# Altium schematic symbol library XC6SLX45_xFGG484I-FGG484.schlib: 1 symbol
Pins are listed as number, name and electrical type; pins without a type are passive.

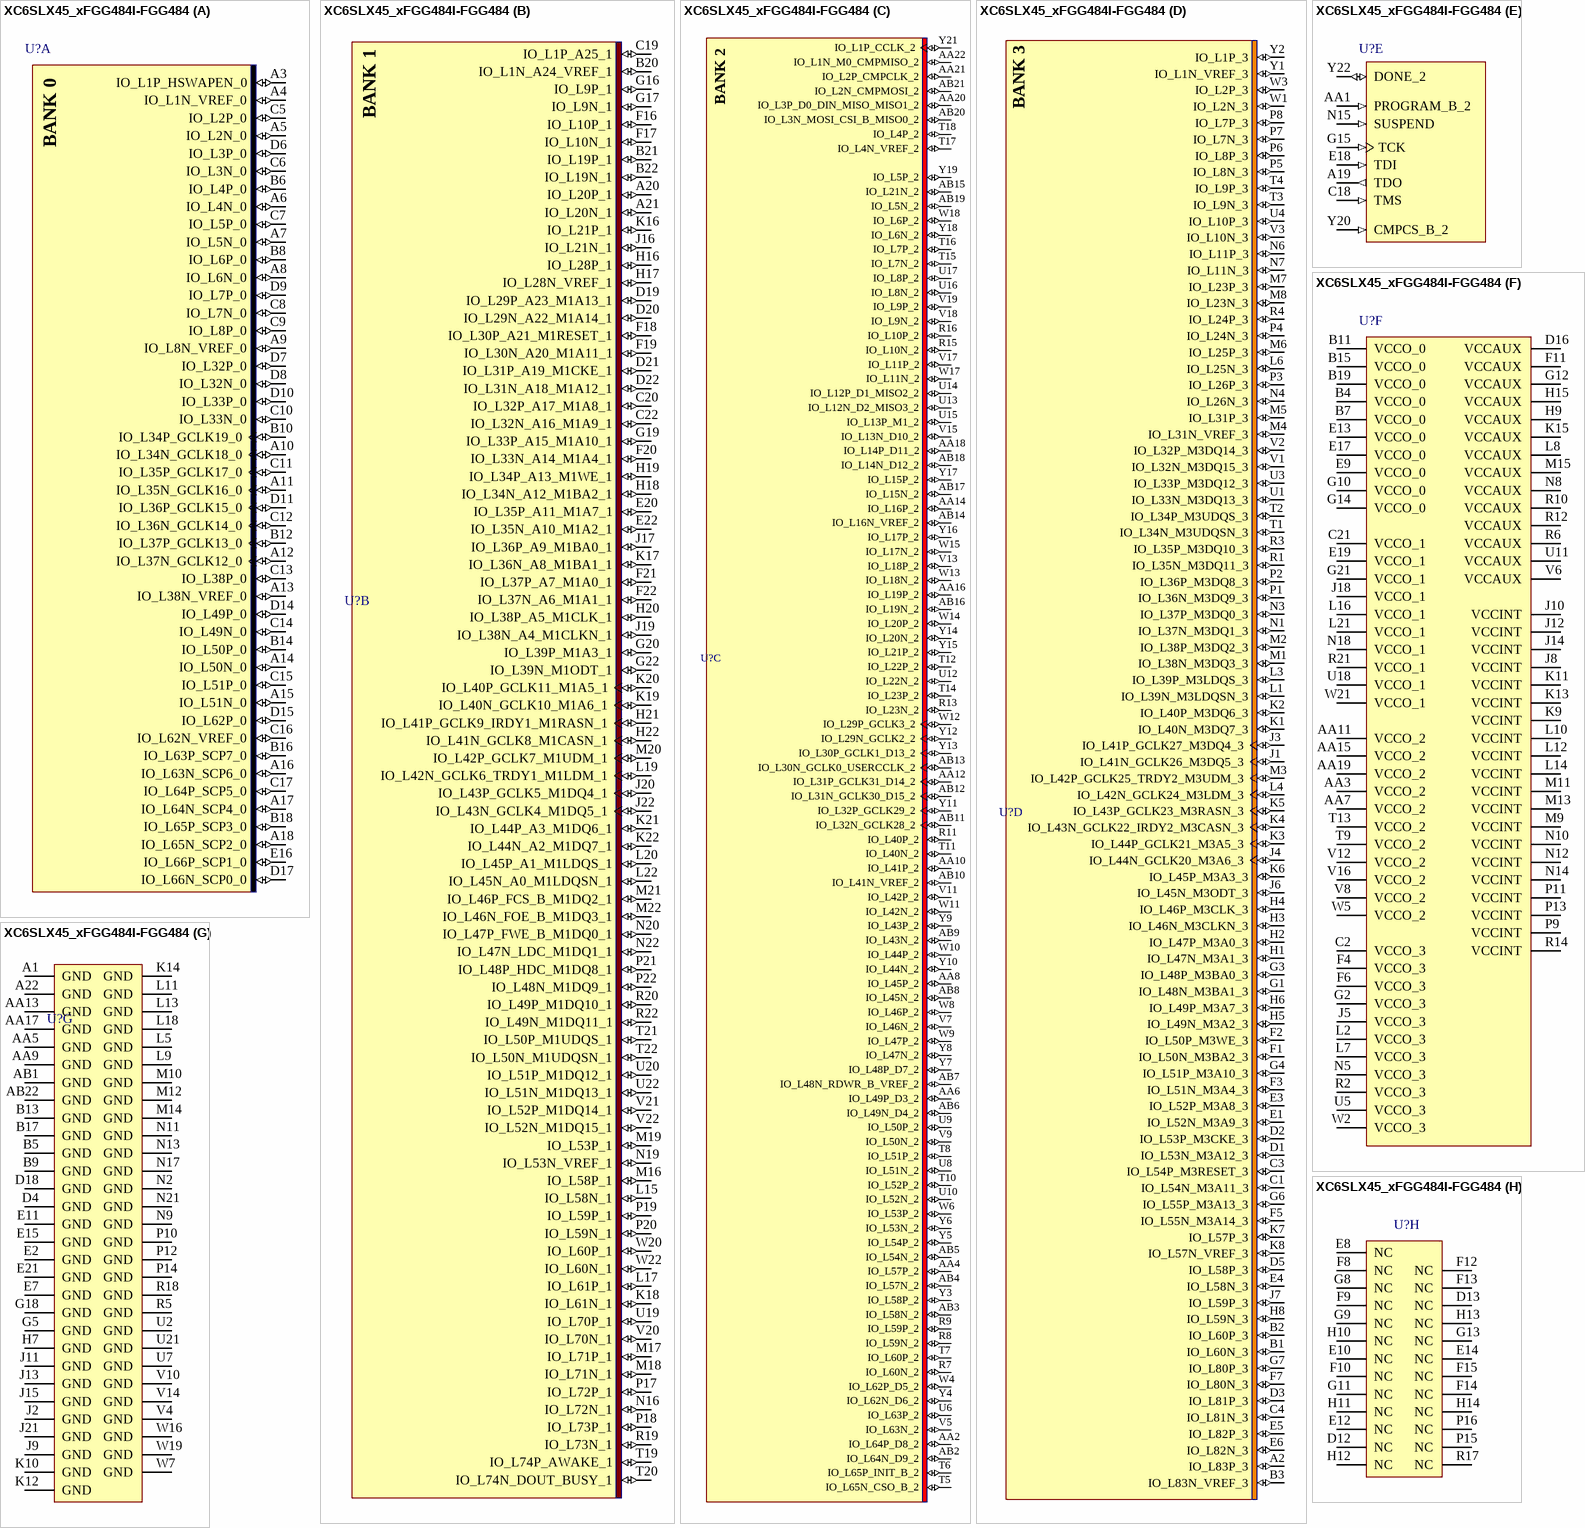
[diagram p0: symbol XC6SLX45_xFGG484I-FGG484]

## XC6SLX45_xFGG484I-FGG484
designator U?  (value not drawn)
part A pins: A3 IO_L1P_HSWAPEN_0 (io), A4 IO_L1N_VREF_0 (io), A5 IO_L2N_0 (io), A6 IO_L4N_0 (io), A7 IO_L5N_0 (io), A8 IO_L6N_0 (io), A9 IO_L8N_VREF_0 (io), A10 IO_L34N_GCLK18_0 (io), A11 IO_L35N_GCLK16_0 (io), A12 IO_L37N_GCLK12_0 (io), A13 IO_L38N_VREF_0 (io), A14 IO_L50N_0 (io), A15 IO_L51N_0 (io), A16 IO_L63N_SCP6_0 (io), A17 IO_L64N_SCP4_0 (io), A18 IO_L65N_SCP2_0 (io), B6 IO_L4P_0 (io), B8 IO_L6P_0 (io), B10 IO_L34P_GCLK19_0 (io), B12 IO_L37P_GCLK13_0 (io), B14 IO_L50P_0 (io), B16 IO_L63P_SCP7_0 (io), B18 IO_L65P_SCP3_0 (io), C5 IO_L2P_0 (io), C6 IO_L3N_0 (io), C7 IO_L5P_0 (io), C8 IO_L7N_0 (io), C9 IO_L8P_0 (io), C10 IO_L33N_0 (io), C11 IO_L35P_GCLK17_0 (io), C12 IO_L36N_GCLK14_0 (io), C13 IO_L38P_0 (io), C14 IO_L49N_0 (io), C15 IO_L51P_0 (io), C16 IO_L62N_VREF_0 (io), C17 IO_L64P_SCP5_0 (io), D6 IO_L3P_0 (io), D7 IO_L32P_0 (io), D8 IO_L32N_0 (io), D9 IO_L7P_0 (io), D10 IO_L33P_0 (io), D11 IO_L36P_GCLK15_0 (io), D14 IO_L49P_0 (io), D15 IO_L62P_0 (io), D17 IO_L66N_SCP0_0 (io), E16 IO_L66P_SCP1_0 (io)
part B pins: A20 IO_L20P_1 (io), A21 IO_L20N_1 (io), B20 IO_L1N_A24_VREF_1 (io), B21 IO_L19P_1 (io), B22 IO_L19N_1 (io), C19 IO_L1P_A25_1 (io), C20 IO_L32P_A17_M1A8_1 (io), C22 IO_L32N_A16_M1A9_1 (io), D19 IO_L29P_A23_M1A13_1 (io), D20 IO_L29N_A22_M1A14_1 (io), D21 IO_L31P_A19_M1CKE_1 (io), D22 IO_L31N_A18_M1A12_1 (io), E20 IO_L35P_A11_M1A7_1 (io), E22 IO_L35N_A10_M1A2_1 (io), F16 IO_L10P_1 (io), F17 IO_L10N_1 (io), F18 IO_L30P_A21_M1RESET_1 (io), F19 IO_L30N_A20_M1A11_1 (io), F20 IO_L33N_A14_M1A4_1 (io), F21 IO_L37P_A7_M1A0_1 (io), F22 IO_L37N_A6_M1A1_1 (io), G16 IO_L9P_1 (io), G17 IO_L9N_1 (io), G19 IO_L33P_A15_M1A10_1 (io), G20 IO_L39P_M1A3_1 (io), G22 IO_L39N_M1ODT_1 (io), H16 IO_L28P_1 (io), H17 IO_L28N_VREF_1 (io), H18 IO_L34N_A12_M1BA2_1 (io), H19 IO_L34P_A13_M1WE_1 (io), H20 IO_L38P_A5_M1CLK_1 (io), H21 IO_L41P_GCLK9_IRDY1_M1RASN_1 (io), H22 IO_L41N_GCLK8_M1CASN_1 (io), J16 IO_L21N_1 (io), J17 IO_L36P_A9_M1BA0_1 (io), J19 IO_L38N_A4_M1CLKN_1 (io), J20 IO_L43P_GCLK5_M1DQ4_1 (io), J22 IO_L43N_GCLK4_M1DQ5_1 (io), K16 IO_L21P_1 (io), K17 IO_L36N_A8_M1BA1_1 (io), K18 IO_L61N_1 (io), K19 IO_L40N_GCLK10_M1A6_1 (io), K20 IO_L40P_GCLK11_M1A5_1 (io), K21 IO_L44P_A3_M1DQ6_1 (io), K22 IO_L44N_A2_M1DQ7_1 (io), L15 IO_L58N_1 (io), L17 IO_L61P_1 (io), L19 IO_L42N_GCLK6_TRDY1_M1LDM_1 (io), L20 IO_L45P_A1_M1LDQS_1 (io), L22 IO_L45N_A0_M1LDQSN_1 (io), M16 IO_L58P_1 (io), M17 IO_L71P_1 (io), M18 IO_L71N_1 (io), M19 IO_L53P_1 (io), M20 IO_L42P_GCLK7_M1UDM_1 (io), M21 IO_L46P_FCS_B_M1DQ2_1 (io), M22 IO_L46N_FOE_B_M1DQ3_1 (io), N16 IO_L72N_1 (io), N19 IO_L53N_VREF_1 (io), N20 IO_L47P_FWE_B_M1DQ0_1 (io), N22 IO_L47N_LDC_M1DQ1_1 (io), P17 IO_L72P_1 (io), P18 IO_L73P_1 (io), P19 IO_L59P_1 (io), P20 IO_L59N_1 (io), P21 IO_L48P_HDC_M1DQ8_1 (io), P22 IO_L48N_M1DQ9_1 (io), R19 IO_L73N_1 (io), R20 IO_L49P_M1DQ10_1 (io), R22 IO_L49N_M1DQ11_1 (io), T19 IO_L74P_AWAKE_1 (io), T20 IO_L74N_DOUT_BUSY_1 (io), T21 IO_L50P_M1UDQS_1 (io), T22 IO_L50N_M1UDQSN_1 (io), U19 IO_L70P_1 (io), U20 IO_L51P_M1DQ12_1 (io), U22 IO_L51N_M1DQ13_1 (io), V20 IO_L70N_1 (io), V21 IO_L52P_M1DQ14_1 (io), V22 IO_L52N_M1DQ15_1 (io), W20 IO_L60P_1 (io), W22 IO_L60N_1 (io)
part C pins: AA2 IO_L64P_D8_2 (io), AA4 IO_L57P_2 (io), AA6 IO_L49P_D3_2 (io), AA8 IO_L45P_2 (io), AA10 IO_L41P_2 (io), AA12 IO_L31P_GCLK31_D14_2 (io), AA14 IO_L16P_2 (io), AA16 IO_L19P_2 (io), AA18 IO_L14P_D11_2 (io), AA20 IO_L3P_D0_DIN_MISO_MISO1_2 (io), AA21 IO_L2P_CMPCLK_2 (io), AA22 IO_L1N_M0_CMPMISO_2 (io), AB2 IO_L64N_D9_2 (io), AB3 IO_L58N_2 (io), AB4 IO_L57N_2 (io), AB5 IO_L54N_2 (io), AB6 IO_L49N_D4_2 (io), AB7 IO_L48N_RDWR_B_VREF_2 (io), AB8 IO_L45N_2 (io), AB9 IO_L43N_2 (io), AB10 IO_L41N_VREF_2 (io), AB11 IO_L32N_GCLK28_2 (io), AB12 IO_L31N_GCLK30_D15_2 (io), AB13 IO_L30N_GCLK0_USERCCLK_2 (io), AB14 IO_L16N_VREF_2 (io), AB15 IO_L21N_2 (io), AB16 IO_L19N_2 (io), AB17 IO_L15N_2 (io), AB18 IO_L14N_D12_2 (io), AB19 IO_L5N_2 (io), AB20 IO_L3N_MOSI_CSI_B_MISO0_2 (io), AB21 IO_L2N_CMPMOSI_2 (io), R7 IO_L60N_2 (io), R8 IO_L59N_2 (io), R9 IO_L59P_2 (io), R11 IO_L40P_2 (io), R13 IO_L23N_2 (io), R15 IO_L10N_2 (io), R16 IO_L10P_2 (io), T5 IO_L65N_CSO_B_2 (io), T6 IO_L65P_INIT_B_2 (io), T7 IO_L60P_2 (io), T8 IO_L51P_2 (io), T10 IO_L52P_2 (io), T11 IO_L40N_2 (io), T12 IO_L22P_2 (io), T14 IO_L23P_2 (io), T15 IO_L7N_2 (io), T16 IO_L7P_2 (io), T17 IO_L4N_VREF_2 (io), T18 IO_L4P_2 (io), U6 IO_L63P_2 (io), U8 IO_L51N_2 (io), U9 IO_L50P_2 (io), U10 IO_L52N_2 (io), U12 IO_L22N_2 (io), U13 IO_L12N_D2_MISO3_2 (io), U14 IO_L12P_D1_MISO2_2 (io), U15 IO_L13P_M1_2 (io), U16 IO_L8N_2 (io), U17 IO_L8P_2 (io), V5 IO_L63N_2 (io), V7 IO_L46N_2 (io), V9 IO_L50N_2 (io), V11 IO_L42P_2 (io), V13 IO_L18P_2 (io), V15 IO_L13N_D10_2 (io), V17 IO_L11P_2 (io), V18 IO_L9N_2 (io), V19 IO_L9P_2 (io), W4 IO_L62P_D5_2 (io), W6 IO_L53P_2 (io), W8 IO_L46P_2 (io), W9 IO_L47P_2 (io), W10 IO_L44P_2 (io), W11 IO_L42N_2 (io), W12 IO_L29P_GCLK3_2 (io), W13 IO_L18N_2 (io), W14 IO_L20P_2 (io), W15 IO_L17N_2 (io), W17 IO_L11N_2 (io), W18 IO_L6P_2 (io), Y3 IO_L58P_2 (io), Y4 IO_L62N_D6_2 (io), Y5 IO_L54P_2 (io), Y6 IO_L53N_2 (io), Y7 IO_L48P_D7_2 (io), Y8 IO_L47N_2 (io), Y9 IO_L43P_2 (io), Y10 IO_L44N_2 (io), Y11 IO_L32P_GCLK29_2 (io), Y12 IO_L29N_GCLK2_2 (io), Y13 IO_L30P_GCLK1_D13_2 (io), Y14 IO_L20N_2 (io), Y15 IO_L21P_2 (io), Y16 IO_L17P_2 (io), Y17 IO_L15P_2 (io), Y18 IO_L6N_2 (io), Y19 IO_L5P_2 (io), Y21 IO_L1P_CCLK_2 (io)
part D pins: A2 IO_L83P_3 (io), B1 IO_L60N_3 (io), B2 IO_L60P_3 (io), B3 IO_L83N_VREF_3 (io), C1 IO_L54N_M3A11_3 (io), C3 IO_L54P_M3RESET_3 (io), C4 IO_L81N_3 (io), D1 IO_L53N_M3A12_3 (io), D2 IO_L53P_M3CKE_3 (io), D3 IO_L81P_3 (io), D5 IO_L58P_3 (io), E1 IO_L52N_M3A9_3 (io), E3 IO_L52P_M3A8_3 (io), E4 IO_L58N_3 (io), E5 IO_L82P_3 (io), E6 IO_L82N_3 (io), F1 IO_L50N_M3BA2_3 (io), F2 IO_L50P_M3WE_3 (io), F3 IO_L51N_M3A4_3 (io), F5 IO_L55N_M3A14_3 (io), F7 IO_L80N_3 (io), G1 IO_L48N_M3BA1_3 (io), G3 IO_L48P_M3BA0_3 (io), G4 IO_L51P_M3A10_3 (io), G6 IO_L55P_M3A13_3 (io), G7 IO_L80P_3 (io), H1 IO_L47N_M3A1_3 (io), H2 IO_L47P_M3A0_3 (io), H3 IO_L46N_M3CLKN_3 (io), H4 IO_L46P_M3CLK_3 (io), H5 IO_L49N_M3A2_3 (io), H6 IO_L49P_M3A7_3 (io), H8 IO_L59N_3 (io), J1 IO_L41N_GCLK26_M3DQ5_3 (io), J3 IO_L41P_GCLK27_M3DQ4_3 (io), J4 IO_L44N_GCLK20_M3A6_3 (io), J6 IO_L45N_M3ODT_3 (io), J7 IO_L59P_3 (io), K1 IO_L40N_M3DQ7_3 (io), K2 IO_L40P_M3DQ6_3 (io), K3 IO_L44P_GCLK21_M3A5_3 (io), K4 IO_L43N_GCLK22_IRDY2_M3CASN_3 (io), K5 IO_L43P_GCLK23_M3RASN_3 (io), K6 IO_L45P_M3A3_3 (io), K7 IO_L57P_3 (io), K8 IO_L57N_VREF_3 (io), L1 IO_L39N_M3LDQSN_3 (io), L3 IO_L39P_M3LDQS_3 (io), L4 IO_L42N_GCLK24_M3LDM_3 (io), L6 IO_L25N_3 (io), M1 IO_L38N_M3DQ3_3 (io), M2 IO_L38P_M3DQ2_3 (io), M3 IO_L42P_GCLK25_TRDY2_M3UDM_3 (io), M4 IO_L31N_VREF_3 (io), M5 IO_L31P_3 (io), M6 IO_L25P_3 (io), M7 IO_L23P_3 (io), M8 IO_L23N_3 (io), N1 IO_L37N_M3DQ1_3 (io), N3 IO_L37P_M3DQ0_3 (io), N4 IO_L26N_3 (io), N6 IO_L11P_3 (io), N7 IO_L11N_3 (io), P1 IO_L36N_M3DQ9_3 (io), P2 IO_L36P_M3DQ8_3 (io), P3 IO_L26P_3 (io), P4 IO_L24N_3 (io), P5 IO_L8N_3 (io), P6 IO_L8P_3 (io), P7 IO_L7N_3 (io), P8 IO_L7P_3 (io), R1 IO_L35N_M3DQ11_3 (io), R3 IO_L35P_M3DQ10_3 (io), R4 IO_L24P_3 (io), T1 IO_L34N_M3UDQSN_3 (io), T2 IO_L34P_M3UDQS_3 (io), T3 IO_L9N_3 (io), T4 IO_L9P_3 (io), U1 IO_L33N_M3DQ13_3 (io), U3 IO_L33P_M3DQ12_3 (io), U4 IO_L10P_3 (io), V1 IO_L32N_M3DQ15_3 (io), V2 IO_L32P_M3DQ14_3 (io), V3 IO_L10N_3 (io), W1 IO_L2N_3 (io), W3 IO_L2P_3 (io), Y1 IO_L1N_VREF_3 (io), Y2 IO_L1P_3 (io)
part E pins: A19 TDO (out), AA1 PROGRAM_B_2 (in), C18 TMS (in), E18 TDI (in), G15 TCK (in), N15 SUSPEND (in), Y20 CMPCS_B_2 (in), Y22 DONE_2 (io)
part F pins: AA3 VCCO_2 (power), AA7 VCCO_2 (power), AA11 VCCO_2 (power), AA15 VCCO_2 (power), AA19 VCCO_2 (power), B4 VCCO_0 (power), B7 VCCO_0 (power), B11 VCCO_0 (power), B15 VCCO_0 (power), B19 VCCO_0 (power), C2 VCCO_3 (power), C21 VCCO_1 (power), D16 VCCAUX (power), E9 VCCO_0 (power), E13 VCCO_0 (power), E17 VCCO_0 (power), E19 VCCO_1 (power), F4 VCCO_3 (power), F6 VCCO_3 (power), F11 VCCAUX (power), G2 VCCO_3 (power), G10 VCCO_0 (power), G12 VCCAUX (power), G14 VCCO_0 (power), G21 VCCO_1 (power), H9 VCCAUX (power), H15 VCCAUX (power), J5 VCCO_3 (power), J8 VCCINT (power), J10 VCCINT (power), J12 VCCINT (power), J14 VCCINT (power), J18 VCCO_1 (power), K9 VCCINT (power), K11 VCCINT (power), K13 VCCINT (power), K15 VCCAUX (power), L2 VCCO_3 (power), L7 VCCO_3 (power), L8 VCCAUX (power), L10 VCCINT (power), L12 VCCINT (power), L14 VCCINT (power), L16 VCCO_1 (power), L21 VCCO_1 (power), M9 VCCINT (power), M11 VCCINT (power), M13 VCCINT (power), M15 VCCAUX (power), N5 VCCO_3 (power), N8 VCCAUX (power), N10 VCCINT (power), N12 VCCINT (power), N14 VCCINT (power), N18 VCCO_1 (power), P9 VCCINT (power), P11 VCCINT (power), P13 VCCINT (power), R2 VCCO_3 (power), R6 VCCAUX (power), R10 VCCAUX (power), R12 VCCAUX (power), R14 VCCINT (power), R21 VCCO_1 (power), T9 VCCO_2 (power), T13 VCCO_2 (power), U5 VCCO_3 (power), U11 VCCAUX (power), U18 VCCO_1 (power), V6 VCCAUX (power), V8 VCCO_2 (power), V12 VCCO_2 (power), V16 VCCO_2 (power), W2 VCCO_3 (power), W5 VCCO_2 (power), W21 VCCO_1 (power)
part G pins: A1 GND (power), A22 GND (power), AA5 GND (power), AA9 GND (power), AA13 GND (power), AA17 GND (power), AB1 GND (power), AB22 GND (power), B5 GND (power), B9 GND (power), B13 GND (power), B17 GND (power), D4 GND (power), D18 GND (power), E2 GND (power), E7 GND (power), E11 GND (power), E15 GND (power), E21 GND (power), G5 GND (power), G18 GND (power), H7 GND (power), J2 GND (power), J9 GND (power), J11 GND (power), J13 GND (power), J15 GND (power), J21 GND (power), K10 GND (power), K12 GND (power), K14 GND (power), L5 GND (power), L9 GND (power), L11 GND (power), L13 GND (power), L18 GND (power), M10 GND (power), M12 GND (power), M14 GND (power), N2 GND (power), N9 GND (power), N11 GND (power), N13 GND (power), N17 GND (power), N21 GND (power), P10 GND (power), P12 GND (power), P14 GND (power), R5 GND (power), R18 GND (power), U2 GND (power), U7 GND (power), U21 GND (power), V4 GND (power), V10 GND (power), V14 GND (power), W7 GND (power), W16 GND (power), W19 GND (power)
part H pins: D12 NC, D13 NC, E8 NC, E10 NC, E12 NC, E14 NC, F8 NC, F9 NC, F10 NC, F12 NC, F13 NC, F14 NC, F15 NC, G8 NC, G9 NC, G11 NC, G13 NC, H10 NC, H11 NC, H12 NC, H13 NC, H14 NC, P15 NC, P16 NC, R17 NC
part A text: BANK 0
part B text: BANK 1
part C text: BANK 2
part D text: BANK 3